# EAGLE library part LT1932 (library X893)
http://www.linear.com/product/LT1932
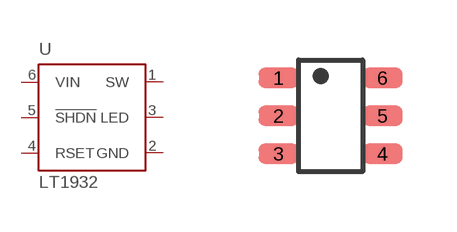
[diagram p122: symbol with the pads of SOT23-6; footprint SOT23-6]

Designator prefix U

## LT1932  [SOT23-6]
1  SW  pas
2  GND  sup
3  LED  pas
4  RSET  pas
5  !SHDN  in
6  VIN  pas

## Footprint SOT23-6 (pad centres in mm)
smd 1 x 0.5: 1 -1.3,0.95; 2 -1.3,0; 3 -1.3,-0.95; 4 1.3,-0.95; 5 1.3,0; 6 1.3,0.95